# Altium footprint library 模拟光伏追踪系统封装库.PcbLib: 24 footprints (part 1 of 2)
Each footprint in its own frame and in the unit in brackets; x right, y up, seen from the top. Pads: shape width x height; smd on the part's side, far side on the other; paste and mask are expansions set on the pad; w line width, h text height; cw(c..) or ccw(c..) is an arc to the next point about the centre after c.
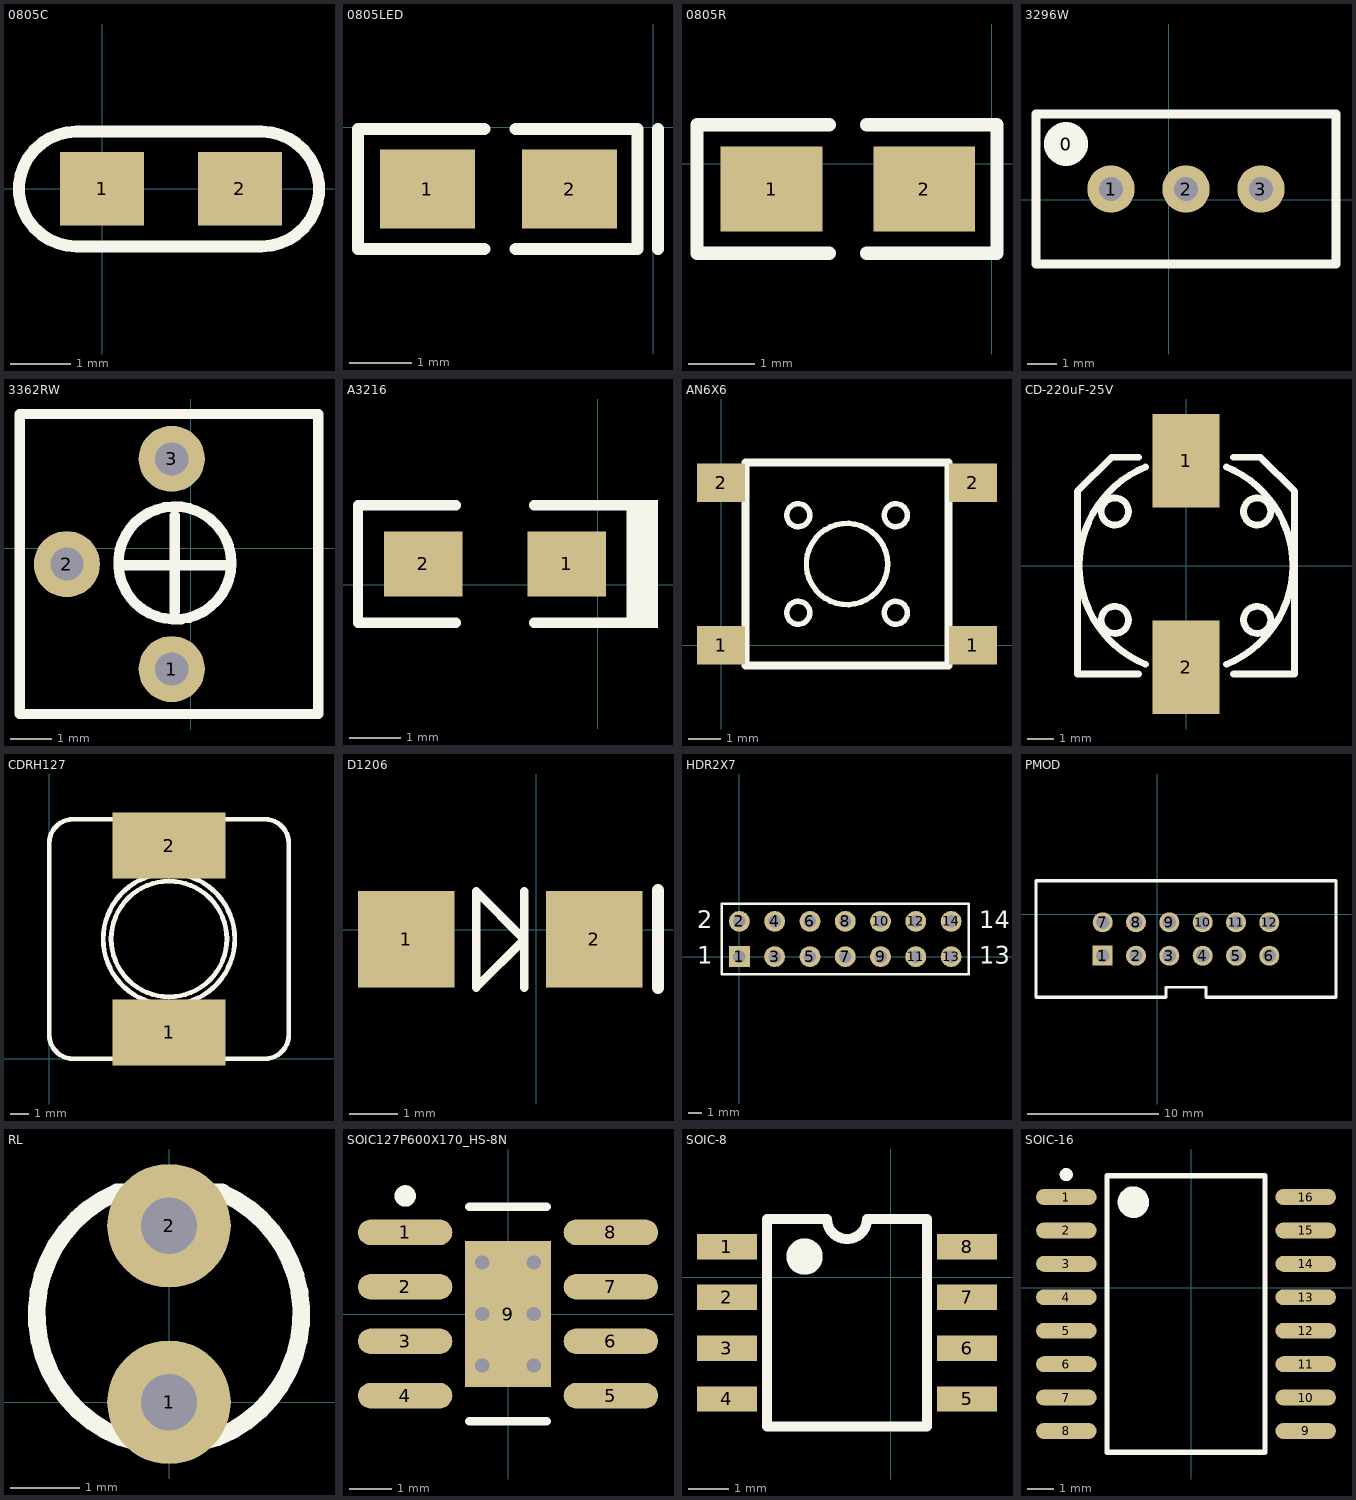
[diagram p0: the footprints below, top view; thin cyan lines are the x and y axes]

## 0805C [mil] "电容"
pads (2):
  rect 55x48 smd: 1(0,0) 2(90,0)
Top Overlay:
  lines w7.87: -16.83,-37.5 cw(c-16.83,-0.1) -16.83,37.3 104.23,37.3 cw(c104.23,-0.1) 104.23,-37.5 -16.83,-37.5

## 0805LED [mil]
pads (2):
  rect 60x50 smd: 1(-143,-39) 2(-53,-39)
Top Overlay:
  lines w7.87: -107,-77 -187,-77 -187,-1 -107,-1 ; -87,-77 -10,-77 -10,-1 -87,-1 ; 3,-77 3,-1

## 0805R [mil]
pads (2):
  rect 60x50 smd: 1(-130,-15) 2(-40,-15)
Top Overlay:
  lines w7.87: -96,-53 -174,-53 -174,23 -96,23 ; -74,-53 3,-53 3,23 -74,23

## 3296W [mm]
pads (4):
  round 1.5 on Top Overlay: 0(-3.48,1.88)
  round 1.6 hole 0.8: 1(-1.956,0.356) 2(0.584,0.356) 3(3.124,0.356)
Top Overlay:
  lines w0.305: -4.496,-2.184 -4.496,2.896 5.664,2.896 5.664,-2.184 -4.496,-2.184

## 3362RW [mm]
pads (3):
  round 1.6 hole 0.8: 1(-0.457,-2.921) 2(-2.997,-0.381) 3(-0.457,2.169)
Top Overlay:
  circle w0.254: c-0.382,-0.353 r1.367
  lines w0.254: -1.601,-0.404 0.812,-0.404 ; -0.382,-1.521 -0.382,0.79 ; -4.141,-4.01 3.094,-4.01 3.094,3.254 -4.141,3.254 -4.141,-4.01

## A3216 [mil]
pads (2):
  rect 60x50 smd: 1(-24,16) 2(-134,16)
Top Overlay:
  rectangle: 26,-33 46,65
  lines w8: -109,-29 -184,-29 -184,61 -109,61 ; -49,-29 11,-29 26,-29 26,61 11,61 -49,61

## AN6X6 [mm]
height 8
pads (4):
  rect 1.5x1.2 smd: 1(0,0) 1(7.874,0) 2(0,5.08) 2(7.874,5.08)
Top Overlay:
  circle w0.17: c2.413,1.016 r0.359
  circle w0.17: c2.413,4.064 r0.359
  circle w0.17: c5.461,4.064 r0.359
  circle w0.17: c5.461,1.016 r0.359
  circle w0.17: c3.937,2.54 r1.27
  lines w0.254: 0.762,-0.635 7.112,-0.635 7.112,5.715 0.762,5.715 0.762,-0.635

## CD-220uF-25V [mm] "CD11"
height 10
pads (2):
  rect 2.5x3.5 smd: 1(0,3.937) 2(0,-3.81)
Top Overlay:
  circle w0.254: c2.667,-2.032 r0.508
  circle w0.254: c-2.667,-2.032 r0.508
  circle w0.254: c-2.667,2.032 r0.508
  circle w0.254: c2.667,2.032 r0.508
  lines w0.254: -1.778,-4.064 -4.064,-4.064 -4.064,2.794 -2.794,4.064 -1.778,4.064 ; -1.523,-3.699 cw(c0,0) -1.523,3.699 ; 1.523,-3.699 ccw(c0,0) 1.523,3.699 ; 1.778,-4.064 4.064,-4.064 4.064,2.794 2.794,4.064 1.778,4.064

## CDRH127 [mm]
height 8
pads (2):
  rect 6x3.5 smd: 1(6.35,1.397) 2(6.35,11.303)
Top Overlay:
  circle w0.254: c6.35,6.35 r3.069
  circle w0.254: c6.35,6.35 r3.487
  lines w0.254: 0,1.27 ccw(c1.27,1.27) 1.27,0 11.43,0 ccw(c11.43,1.27) 12.7,1.27 12.7,11.43 ccw(c11.43,11.43) 11.43,12.7 1.27,12.7 ccw(c1.27,11.43) 0,11.43 0,1.27

## D1206 [mm]
pads (2):
  rect 2x2 smd: 1(-2.692,-0.203) 2(1.208,-0.203)
Top Overlay:
  lines w0.025: -1.242,0.797 -1.242,0.797 ; -0.242,-0.203 -0.242,-0.203
  lines w0.178: -0.242,-1.203 -0.242,0.797 ; -1.242,-1.203 -0.242,-0.203 -1.242,0.797 -1.242,-1.203
  lines w0.254: 2.53,-1.212 2.53,0.82

## HDR2X7 [mm] "Connector; Header; 7x2 Position"
height 12.75
pads (14):
  rect 1.5x1.5 hole 0.9: 1(0,0)
  round 1.5 hole 0.9: 2(0,2.54) 3(2.54,0) 4(2.54,2.54) 5(5.08,0) 6(5.08,2.54) 7(7.62,0) 8(7.62,2.54) 9(10.16,0) 10(10.16,2.54) 11(12.7,0) 12(12.7,2.54) 13(15.24,0) 14(15.24,2.54)
Top Overlay:
  lines w0.2: -1.27,-1.27 16.51,-1.27 16.51,3.81 -1.27,3.81 -1.27,-1.27
  text "13" at 17.272,-0.508 h1.27
  text "14" at 17.272,2.032 h1.27
  text "1" at -3.048,-0.508 h1.27
  text "2" at -3.048,2.032 h1.27

## PMOD [mil]
pads (12):
  rect 60x60 hole 40: 1(-163,-124)
  round 60 hole 40: 2(-63,-124) 3(37,-124) 4(137,-124) 5(237,-124) 6(337,-124) 7(-163,-24) 8(-63,-24) 9(37,-24) 10(137,-24) 11(237,-24) 12(337,-24)
Top Overlay:
  lines w7.87: 27,-249.2 27,-219.2 147,-219.2 147,-249.2
  lines w10: 27,-249.2 -363,-249.2 -363,101.2 537,101.2 537,-249.2 147,-249.2

## RL [mil]
height 43.31
pads (2):
  round 70 hole 32: 1(0,0) 2(0,100)
Top Overlay:
  lines w10: -29.54,118.94 ccw(c0,50) 29.54,118.94 ; -29,119 30,119

## SOIC127P600X170_HS-8N [mm] "SOIC, 8-Leads, Body 5.0x4.0mm (max), Pitch 1.27mm, IPC Medium Density"
height 1.7
pads (9):
  oval 2.2x0.6 smd: 1(-2.4,1.905) 2(-2.4,0.635) 3(-2.4,-0.635) 4(-2.4,-1.905) 5(2.4,-1.905) 6(2.4,-0.635) 7(2.4,0.635) 8(2.4,1.905)
  rect 2x3.4 smd: 9(0,0)
via 0.6,-1.2 diameter 0.66 hole 0.33
via -0.6,-1.2 diameter 0.66 hole 0.33
via 0.6,0 diameter 0.66 hole 0.33
via -0.6,0 diameter 0.66 hole 0.33
via 0.6,1.2 diameter 0.66 hole 0.33
via -0.6,1.2 diameter 0.66 hole 0.33
Top Overlay:
  circle w0.25: c-2.4,2.755 r0.125
  lines w0.2: -0.9,-2.5 0.9,-2.5 ; -0.9,2.5 0.9,2.5
Mechanical 15:
  lines w0.1: -0.5,0 0.5,0 ; 0,-0.5 0,0.5

## SOIC-8 [mm]
pads (8):
  rect 1.5x0.635 smd: 1(-4.095,0.762) 2(-4.095,-0.508) 3(-4.095,-1.778) 4(-4.095,-3.048) 5(1.905,-3.048) 6(1.905,-1.778) 7(1.905,-0.508) 8(1.905,0.762)
Top Overlay:
  circle w0.6: c-2.155,0.513 r0.152
  lines w0.254: -3.095,-3.738 0.905,-3.738 0.905,1.452 -0.595,1.452 cw(c-1.095,1.452) -1.595,1.452 -3.095,1.452 -3.095,-3.738

## SOIC-16 [mm]
pads (16):
  oval 2.3x0.6 smd: 1(-4.753,3.454) 2(-4.753,2.184) 3(-4.753,0.914) 4(-4.753,-0.356) 5(-4.753,-1.626) 6(-4.753,-2.896) 7(-4.753,-4.166) 8(-4.753,-5.436) 9(4.347,-5.436) 10(4.347,-4.166) 11(4.347,-2.896) 12(4.347,-1.626) 13(4.347,-0.356) 14(4.347,0.914) 15(4.347,2.184) 16(4.347,3.454)
Top Overlay:
  circle w0.25: c-4.753,4.304 r0.125
  circle w0.6: c-2.203,3.259 r0.3
  lines w0.2: -3.203,-6.241 -3.203,4.259 2.797,4.259 2.797,-6.241 -3.203,-6.241